# Altium schematic symbol library APB3025ESGC-F01.Schlib: 1 symbol
Pins are listed as number, name and electrical type; pins without a type are passive.

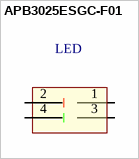
[diagram p0: symbol APB3025ESGC-F01]

## APB3025ESGC-F01
designator LED
LED Red & Green
pins: 1, 2, 3, 4